# EAGLE library part TE-969973-3 (library TE-969973-FemaleHeaderSMD)
TE 969973 6-way 2x3 SMD Female Header
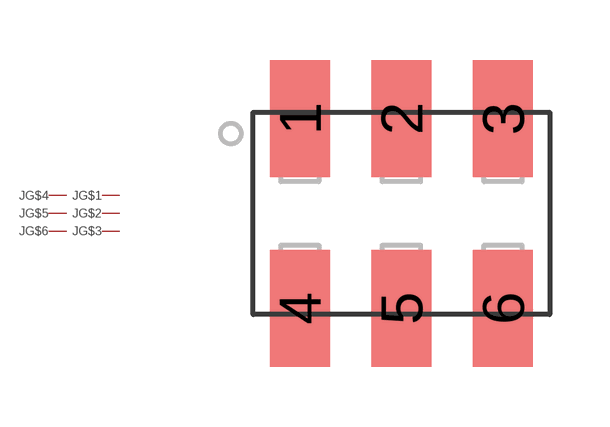
[diagram p0: symbol with the pads of 969973-3; footprint 969973-3]

Designator prefix J; gates G$1=PIN G$2=PIN G$3=PIN G$4=PIN G$5=PIN G$6=PIN

## TE-969973-3  [969973-3]
1  G$1:P$1
2  G$2:P$1
3  G$3:P$1
4  G$4:P$1
5  G$5:P$1
6  G$6:P$1

## Footprint 969973-3 (pad centres in mm)
smd 1.5 x 2.93: 1 -2.54,2.375; 2 0,2.375; 3 2.54,2.375; 4 -2.54,-2.375; 5 0,-2.375; 6 2.54,-2.375